# EAGLE library part MEM_NORFLASH_8PIN (library !GPLIB_ACTIVE)
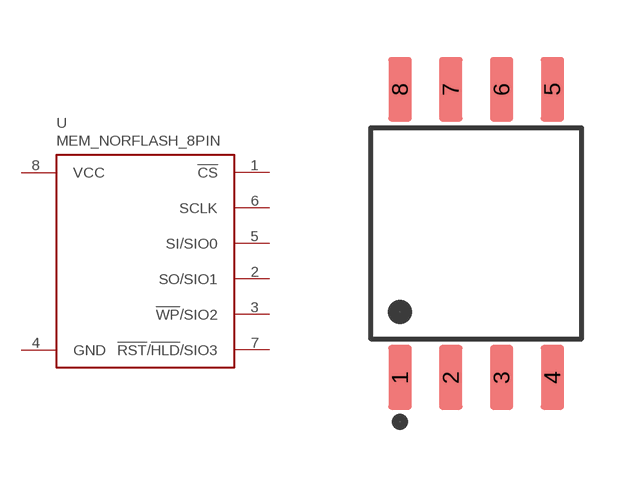
[diagram p45: symbol with the pads of SOIC127P790X216-8N; footprint SOIC127P790X216-8N]

Designator prefix U

## MEM_NORFLASH_8PIN_W25Q64JVSSIQ  [SOIC127P790X216-8N]
1  !CS
2  SO/SIO1
3  !WP!/SIO2
4  GND  pwr
5  SI/SIO0
6  SCLK  in
7  !RST!/!HLD!/SIO3
8  VCC  pwr

## MEM_NORFLASH_8PIN_W25Q64JWSSIQ  [SOIC127P790X216-8N]
Pads as for SOIC127P790X216-8N

## MEM_NORFLASH_8PIN_GD25LQ128ESIGR  [SOIC127P790X216-8N]
Pads as for SOIC127P790X216-8N

## Footprint SOIC127P790X216-8N (pad centres in mm)
8-SOIC 5.28mm wide (0.208 mil) SOIC 8P
smd 0.58 x 1.61: 1 -1.905,-3.605; 2 -0.635,-3.605; 3 0.635,-3.605; 4 1.905,-3.605; 5 1.905,3.605; 6 0.635,3.605; 7 -0.635,3.605; 8 -1.905,3.605